# Altium footprint library PCB_LIB.PcbLib: 60 footprints (part 3 of 4)
Each footprint in its own frame and in the unit in brackets; x right, y up, seen from the top. Pads: shape width x height; smd on the part's side, far side on the other; paste and mask are expansions set on the pad; w line width, h text height; cw(c..) or ccw(c..) is an arc to the next point about the centre after c.
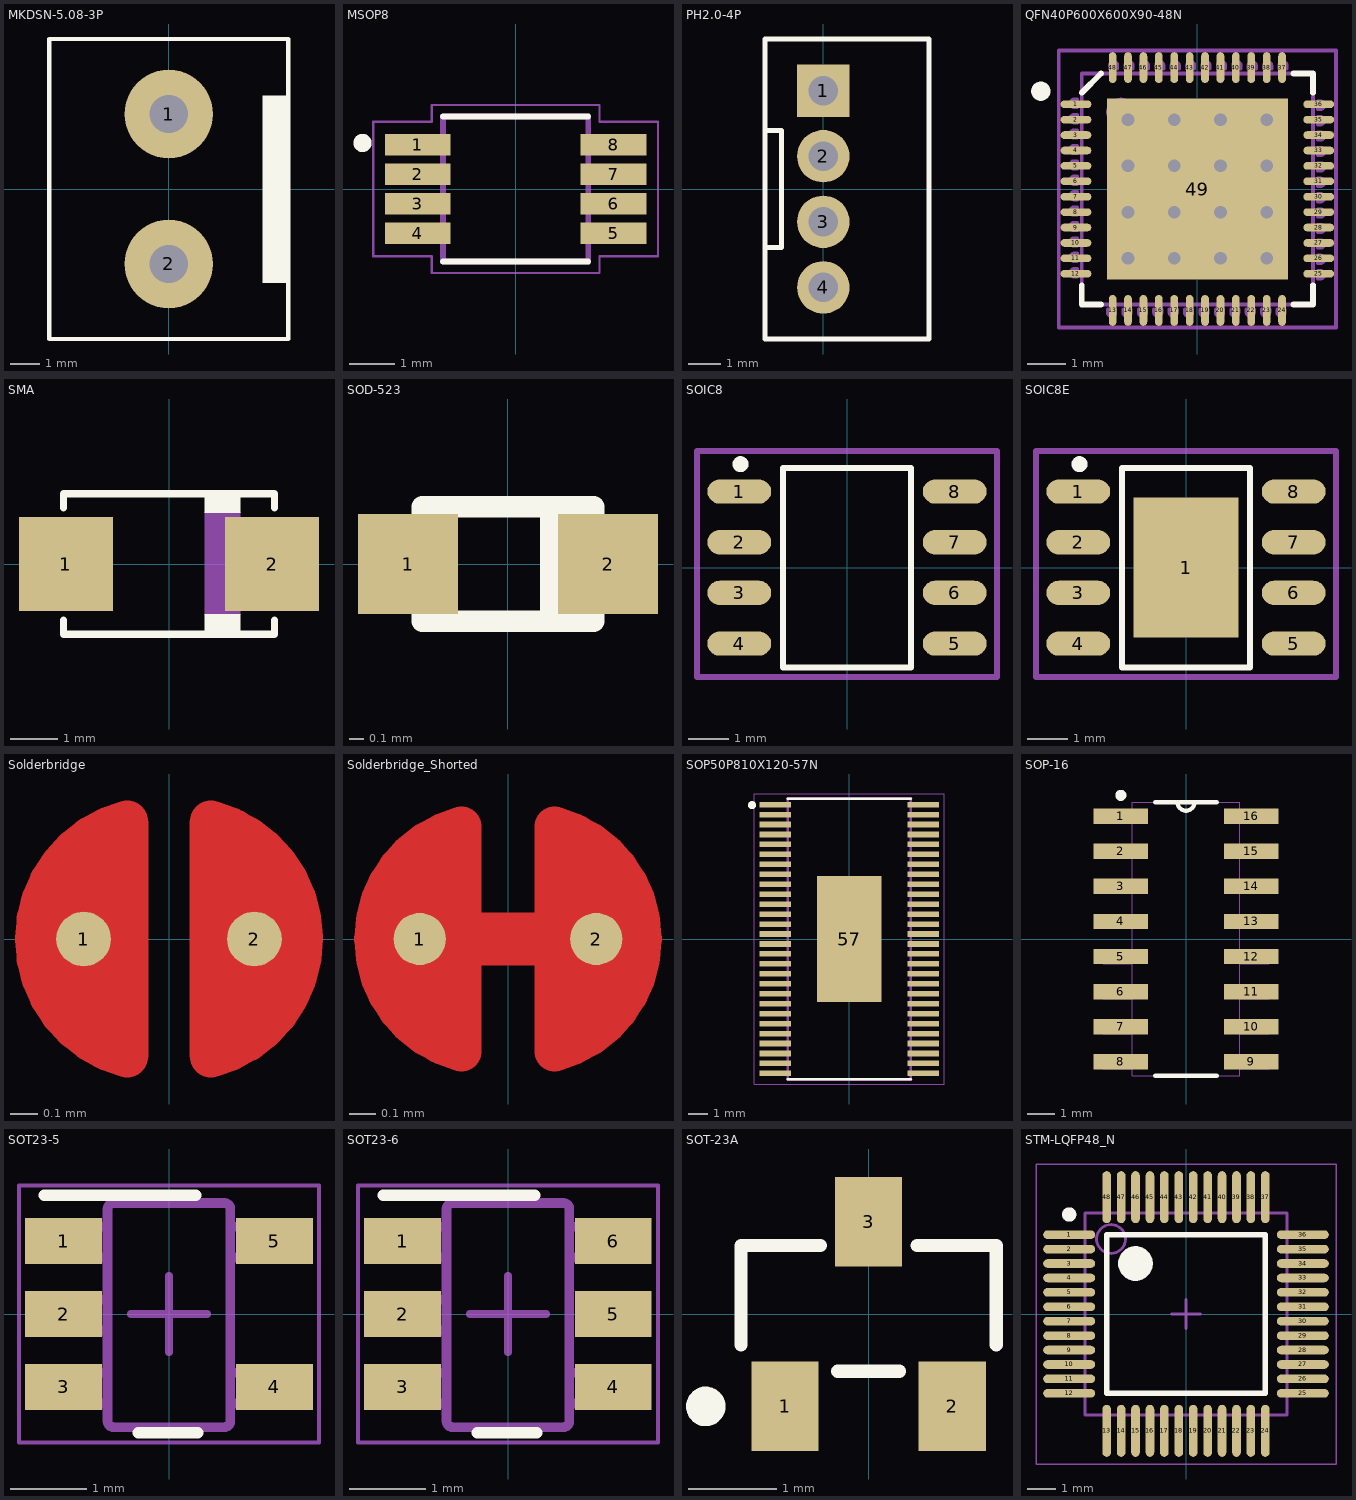
[diagram p2: the footprints below, top view; thin cyan lines are the x and y axes]

## MKDSN-5.08-3P [mm]
pads (2):
  round 3 hole 1.3: 1(0,2.54) 2(0,-2.54)
Top Overlay:
  rectangle: 3.175,-3.175 4.064,3.175
  lines w0.15: -4.05,-5.08 4.05,-5.08 4.05,5.08 -4.05,5.08 -4.05,-5.08
3D body "pxc_1729128_07_MKDSN-1-5-2-5-08_3D.stp": height 10, standoff -3.5, extent -4.054,-5.659 4.046,5.071

## MSOP8 [mm]
pads (8):
  rect 1.45x0.48 smd: 1(-2.16,0.975) 2(-2.16,0.325) 3(-2.16,-0.325) 4(-2.16,-0.975) 5(2.16,-0.975) 6(2.16,-0.325) 7(2.16,0.325) 8(2.16,0.975)
Top Overlay:
  circle w0.2: c-3.375,1.016 r0.1
  lines w0.127: -1.6,-1.6 1.6,-1.6 ; -1.6,1.6 1.6,1.6
Mechanical 1:
  lines w0.127: -1.6,-1.6 1.6,-1.6 1.6,1.6 -1.6,1.6 -1.6,-1.6
Mechanical 4:
  lines w0.05: -3.14,-1.48 -1.85,-1.48 -1.85,-1.85 1.85,-1.85 1.85,-1.48 3.14,-1.48 3.14,1.48 1.85,1.48 1.85,1.85 -1.85,1.85 -1.85,1.48 -3.14,1.48 -3.14,-1.48

## PH2.0-4P [mm]
pads (4):
  rect 1.6x1.6 hole 0.9: 1(0,3)
  round 1.6 hole 0.9: 2(0,1) 3(0,-1) 4(0,-3)
Top Overlay:
  lines w0.15: -1.778,-1.778 -1.27,-1.778 -1.27,1.778 -1.778,1.778 ; -1.778,-4.572 3.222,-4.572 3.222,4.572 -1.778,4.572 -1.778,-4.572

## QFN40P600X600X90-48N [mm]
pads (49):
  oval 0.8x0.2 smd: 1(-3.152,2.2) 2(-3.152,1.8) 3(-3.152,1.4) 4(-3.152,1) 5(-3.152,0.6) 6(-3.152,0.2) 7(-3.152,-0.2) 8(-3.152,-0.6) 9(-3.152,-1) 10(-3.152,-1.4) 11(-3.152,-1.8) 12(-3.152,-2.2) 25(3.152,-2.2) 26(3.152,-1.8) 27(3.152,-1.4) 28(3.152,-1) 29(3.152,-0.6) 30(3.152,-0.2) 31(3.152,0.2) 32(3.152,0.6) 33(3.152,1) 34(3.152,1.4) 35(3.152,1.8) 36(3.152,2.2)
  oval 0.2x0.8 smd: 13(-2.2,-3.152) 14(-1.8,-3.152) 15(-1.4,-3.152) 16(-1,-3.152) 17(-0.6,-3.152) 18(-0.2,-3.152) 19(0.2,-3.152) 20(0.6,-3.152) 21(1,-3.152) 22(1.4,-3.152) 23(1.8,-3.152) 24(2.2,-3.152) 37(2.2,3.152) 38(1.8,3.152) 39(1.4,3.152) 40(1,3.152) 41(0.6,3.152) 42(0.2,3.152) 43(-0.2,3.152) 44(-0.6,3.152) 45(-1,3.152) 46(-1.4,3.152) 47(-1.8,3.152) 48(-2.2,3.152)
  rect 4.7x4.7 smd: 49(0,0)
via 1.8,-1.8 diameter 0.66 hole 0.33
via 0.6,-1.8 diameter 0.66 hole 0.33
via -0.6,-1.8 diameter 0.66 hole 0.33
via -1.8,-1.8 diameter 0.66 hole 0.33
via 1.8,-0.6 diameter 0.66 hole 0.33
via 0.6,-0.6 diameter 0.66 hole 0.33
via -0.6,-0.6 diameter 0.66 hole 0.33
via -1.8,-0.6 diameter 0.66 hole 0.33
via 1.8,0.6 diameter 0.66 hole 0.33
via 0.6,0.6 diameter 0.66 hole 0.33
via -0.6,0.6 diameter 0.66 hole 0.33
via -1.8,0.6 diameter 0.66 hole 0.33
via 1.8,1.8 diameter 0.66 hole 0.33
via 0.6,1.8 diameter 0.66 hole 0.33
via -0.6,1.8 diameter 0.66 hole 0.33
via -1.8,1.8 diameter 0.66 hole 0.33
Top Overlay:
  circle w0.25: c-4.064,2.54 r0.125
  lines w0.15: -3,-2.5 -3,-3 -2.5,-3 ; -3,2.5 -2.5,3 ; 2.5,-3 3,-3 3,-2.5 ; 2.5,3 3,3 3,2.5
Mechanical 7:
  circle w0.1: c-2,2 r0.32
  lines w0.1: -3.127,-2.269 -3.198,-2.269 cw(c-3.198,-2.174) -3.198,-2.079 -3.127,-2.079 ; -3.127,-1.869 -3.198,-1.869 cw(c-3.198,-1.774) -3.198,-1.679 -3.127,-1.679 ; -3.127,-1.469 -3.198,-1.469 cw(c-3.198,-1.374) -3.198,-1.279 -3.127,-1.279 ; -3.127,-1.069 -3.198,-1.069 cw(c-3.198,-0.974) -3.198,-0.879 -3.127,-0.879 ; -3.127,-0.669 -3.198,-0.669 cw(c-3.198,-0.574) -3.198,-0.479 -3.127,-0.479 ; -3.127,-0.269 -3.198,-0.269 cw(c-3.198,-0.174) -3.198,-0.079 -3.127,-0.079 ; -3.127,0.131 -3.198,0.131 cw(c-3.198,0.226) -3.198,0.321 -3.127,0.321 ; -3.127,0.531 -3.198,0.531 cw(c-3.198,0.626) -3.198,0.721 -3.127,0.721 ; -3.127,0.931 -3.198,0.931 cw(c-3.198,1.026) -3.198,1.121 -3.127,1.121 ; -3.127,1.331 -3.198,1.331 cw(c-3.198,1.426) -3.198,1.521 -3.127,1.521 ; -3.127,1.731 -3.198,1.731 cw(c-3.198,1.826) -3.198,1.921 -3.127,1.921 ; -3.127,2.131 -3.198,2.131 cw(c-3.198,2.226) -3.198,2.321 -3.127,2.321 ; -2.321,-3.127 -2.321,-3.198 ccw(c-2.226,-3.198) -2.131,-3.198 -2.131,-3.127 ; -2.269,3.127 -2.269,3.198 cw(c-2.174,3.198) -2.079,3.198 -2.079,3.127 ; -1.921,-3.127 -1.921,-3.198 ccw(c-1.826,-3.198) -1.731,-3.198 -1.731,-3.127 ; -1.869,3.127 -1.869,3.198 cw(c-1.774,3.198) -1.679,3.198 -1.679,3.127 ; -1.521,-3.127 -1.521,-3.198 ccw(c-1.426,-3.198) -1.331,-3.198 -1.331,-3.127 ; -1.469,3.127 -1.469,3.198 cw(c-1.374,3.198) -1.279,3.198 -1.279,3.127 ; -1.121,-3.127 -1.121,-3.198 ccw(c-1.026,-3.198) -0.931,-3.198 -0.931,-3.127 ; -1.069,3.127 -1.069,3.198 cw(c-0.974,3.198) -0.879,3.198 -0.879,3.127 ; -0.721,-3.127 -0.721,-3.198 ccw(c-0.626,-3.198) -0.531,-3.198 -0.531,-3.127 ; -0.669,3.127 -0.669,3.198 cw(c-0.574,3.198) -0.479,3.198 -0.479,3.127 ; -0.321,-3.127 -0.321,-3.198 ccw(c-0.226,-3.198) -0.131,-3.198 -0.131,-3.127 ; -0.269,3.127 -0.269,3.198 cw(c-0.174,3.198) -0.079,3.198 -0.079,3.127 ; 0.079,-3.127 0.079,-3.198 ccw(c0.174,-3.198) 0.269,-3.198 0.269,-3.127 ; 0.131,3.127 0.131,3.198 cw(c0.226,3.198) 0.321,3.198 0.321,3.127 ; 0.479,-3.127 0.479,-3.198 ccw(c0.574,-3.198) 0.669,-3.198 0.669,-3.127 ; 0.531,3.127 0.531,3.198 cw(c0.626,3.198) 0.721,3.198 0.721,3.127 ; 0.879,-3.127 0.879,-3.198 ccw(c0.974,-3.198) 1.069,-3.198 1.069,-3.127 ; 0.931,3.127 0.931,3.198 cw(c1.026,3.198) 1.121,3.198 1.121,3.127 ; 1.279,-3.127 1.279,-3.198 ccw(c1.374,-3.198) 1.469,-3.198 1.469,-3.127 ; 1.331,3.127 1.331,3.198 cw(c1.426,3.198) 1.521,3.198 1.521,3.127 ; 1.679,-3.127 1.679,-3.198 ccw(c1.774,-3.198) 1.869,-3.198 1.869,-3.127 ; 1.731,3.127 1.731,3.198 cw(c1.826,3.198) 1.921,3.198 1.921,3.127 ; 2.079,-3.127 2.079,-3.198 ccw(c2.174,-3.198) 2.269,-3.198 2.269,-3.127 ; 2.131,3.127 2.131,3.198 cw(c2.226,3.198) 2.321,3.198 2.321,3.127 ; 3.127,-2.321 3.198,-2.321 ccw(c3.198,-2.226) 3.198,-2.131 3.127,-2.131 ; 3.127,-1.921 3.198,-1.921 ccw(c3.198,-1.826) 3.198,-1.731 3.127,-1.731 ; 3.127,-1.521 3.198,-1.521 ccw(c3.198,-1.426) 3.198,-1.331 3.127,-1.331 ; 3.127,-1.121 3.198,-1.121 ccw(c3.198,-1.026) 3.198,-0.931 3.127,-0.931 ; 3.127,-0.721 3.198,-0.721 ccw(c3.198,-0.626) 3.198,-0.531 3.127,-0.531 ; 3.127,-0.321 3.198,-0.321 ccw(c3.198,-0.226) 3.198,-0.131 3.127,-0.131 ; 3.127,0.079 3.198,0.079 ccw(c3.198,0.174) 3.198,0.269 3.127,0.269 ; 3.127,0.479 3.198,0.479 ccw(c3.198,0.574) 3.198,0.669 3.127,0.669 ; 3.127,0.879 3.198,0.879 ccw(c3.198,0.974) 3.198,1.069 3.127,1.069 ; 3.127,1.279 3.198,1.279 ccw(c3.198,1.374) 3.198,1.469 3.127,1.469 ; 3.127,1.679 3.198,1.679 ccw(c3.198,1.774) 3.198,1.869 3.127,1.869 ; 3.127,2.079 3.198,2.079 ccw(c3.198,2.174) 3.198,2.269 3.127,2.269 ; -3,-3 3,-3 3,3 -3,3 -3,-3
Mechanical 15:
  lines w0.1: -0.5,0 0.5,0 ; 0,-0.5 0,0.5 ; -3.6,-3.6 3.6,-3.6 3.6,3.6 -3.6,3.6 -3.6,-3.6
3D body "User Library-QFN48.step": height 0.86, standoff -0.01, extent -3.02,-3.02 3.02,3.02

## SMA [mm]
pads (2):
  rect 2x2 smd: 1(-2.2,0) 2(2.2,0)
Top Overlay:
  region: 0.762,1.446 1.524,1.446 1.524,1.094 0.762,1.094
  region: 0.762,-1.071 1.524,-1.071 1.524,-1.422 0.762,-1.422
  lines w0.15: -2.25,-1.194 -2.25,-1.499 2.25,-1.499 2.25,-1.194 ; -2.25,1.194 -2.25,1.499 2.25,1.499 2.25,1.194
Mechanical 1:
  region: 0.762,1.092 1.524,1.092 1.524,-1.067 0.762,-1.067
3D body "SMA.STEP": height 2.15, standoff -0.05, extent -2.5,-1.35 2.5,1.35

## SOD-523 [mm]
pads (2):
  rect 0.7x0.7 smd: 1(-0.7,0) 2(0.7,0)
Top Overlay:
  lines w0.15: 0.3,-0.4 0.3,0.4 ; 0.4,-0.4 0.4,0.4 ; 0.5,-0.4 0.5,0.4 ; -0.6,-0.4 -0.6,0.4 0.6,0.4 0.6,-0.4 -0.6,-0.4
3D body "User Library-SOD-523F.step": height 0.7, standoff 0, extent -0.8,-0.399 0.8,0.399

## SOIC8 [mm]
pads (8):
  oval 1.6x0.61 smd: 1(-2.7,1.905) 2(-2.7,0.635) 3(-2.7,-0.635) 4(-2.7,-1.905) 5(2.7,-1.905) 6(2.7,-0.635) 7(2.7,0.635) 8(2.7,1.905)
Top Overlay:
  circle w0.2: c-2.667,2.591 r0.1
  lines w0.15: -1.6,-2.5 1.6,-2.5 1.6,2.5 -1.6,2.5 -1.6,-2.5
Mechanical 15:
  lines w0.15: -3.759,-2.743 3.759,-2.743 3.759,2.921 -3.759,2.921 -3.759,-2.743
3D body "SOIC8E.STEP": height 1.7, standoff 0, extent -3,-2.45 3,2.45

## SOIC8E [mm]
pads (9):
  oval 1.6x0.61 smd: 1(-2.7,1.905) 2(-2.7,0.635) 3(-2.7,-0.635) 4(-2.7,-1.905) 5(2.7,-1.905) 6(2.7,-0.635) 7(2.7,0.635) 8(2.7,1.905)
  rect 2.62x3.51 smd: 1(0,0)
Top Overlay:
  circle w0.2: c-2.667,2.591 r0.1
  lines w0.15: -1.6,-2.5 -1.6,2.5 1.6,2.5 1.6,-2.5 -1.6,-2.5
Mechanical 15:
  lines w0.15: -3.759,-2.743 -3.759,2.921 3.759,2.921 3.759,-2.743 -3.759,-2.743
3D body "SOIC8E.STEP": height 1.7, standoff 0, extent -3,-2.45 3,2.45

## Solderbridge [mm]
pads (2):
  round 0.2 smd paste-10: 1(-0.312,0) 2(0.312,0)
Top Layer:
  region: -0.077,-0.432 -0.152,-0.505 -0.271,-0.467 -0.335,-0.424 -0.409,-0.351 -0.462,-0.292 -0.521,-0.193 -0.549,-0.099 -0.544,0.122 -0.518,0.193 -0.434,0.33 -0.351,0.411 -0.259,0.469 -0.157,0.5 -0.107,0.483 -0.077,0.43
  region: 0.077,0.432 0.152,0.505 0.271,0.467 0.335,0.424 0.409,0.351 0.462,0.292 0.521,0.193 0.549,0.099 0.544,-0.122 0.518,-0.193 0.434,-0.33 0.351,-0.411 0.259,-0.469 0.157,-0.5 0.107,-0.483 0.077,-0.43
  lines w0.152: -0.153,-0.431 cw(c-0.042,0) -0.487,0 cw(c-0.042,0) -0.287,0.371 cw(c-0.042,0) -0.153,0.431 ; 0.153,-0.431 ccw(c0.042,0) 0.461,0.149 ccw(c0.042,0) 0.153,0.431
Top Solder:
  circle w0.61: c-0.003,0 r0.279

## Solderbridge_Shorted [mm]
pads (2):
  round 0.2 smd paste-10: 1(-0.338,0) 2(0.338,0)
Top Layer:
  region: -0.102,-0.432 -0.178,-0.505 -0.296,-0.467 -0.361,-0.424 -0.434,-0.351 -0.488,-0.292 -0.546,-0.193 -0.574,-0.099 -0.569,0.122 -0.544,0.193 -0.46,0.33 -0.376,0.411 -0.284,0.469 -0.183,0.5 -0.132,0.483 -0.102,0.43
  region: 0.102,0.432 0.178,0.505 0.296,0.467 0.361,0.424 0.434,0.351 0.488,0.292 0.546,0.193 0.574,0.099 0.569,-0.122 0.544,-0.193 0.46,-0.33 0.376,-0.411 0.284,-0.469 0.183,-0.5 0.132,-0.483 0.102,-0.43
  lines w0.152: -0.178,-0.431 cw(c-0.068,0) -0.178,0.431 ; 0.178,-0.431 ccw(c0.068,0) 0.178,0.431
  lines w0.203: -0.338,0 0.338,0
Top Solder:
  circle w0.61: c0.028,0 r0.279
  circle w0.61: c-0.028,0 r0.279

## SOP50P810X120-57N [mm]
pads (57):
  rect 1.57x0.28 smd: 1(-3.72,6.75) 2(-3.72,6.25) 3(-3.72,5.75) 4(-3.72,5.25) 5(-3.72,4.75) 6(-3.72,4.25) 7(-3.72,3.75) 8(-3.72,3.25) 9(-3.72,2.75) 10(-3.72,2.25) 11(-3.72,1.75) 12(-3.72,1.25) 13(-3.72,0.75) 14(-3.72,0.25) 15(-3.72,-0.25) 16(-3.72,-0.75) 17(-3.72,-1.25) 18(-3.72,-1.75) 19(-3.72,-2.25) 20(-3.72,-2.75) 21(-3.72,-3.25) 22(-3.72,-3.75) 23(-3.72,-4.25) 24(-3.72,-4.75) 25(-3.72,-5.25) 26(-3.72,-5.75) 27(-3.72,-6.25) 28(-3.72,-6.75) 29(3.72,-6.75) 30(3.72,-6.25) 31(3.72,-5.75) 32(3.72,-5.25) 33(3.72,-4.75) 34(3.72,-4.25) 35(3.72,-3.75) 36(3.72,-3.25) 37(3.72,-2.75) 38(3.72,-2.25) 39(3.72,-1.75) 40(3.72,-1.25) 41(3.72,-0.75) 42(3.72,-0.25) 43(3.72,0.25) 44(3.72,0.75) 45(3.72,1.25) 46(3.72,1.75) 47(3.72,2.25) 48(3.72,2.75) 49(3.72,3.25) 50(3.72,3.75) 51(3.72,4.25) 52(3.72,4.75) 53(3.72,5.25) 54(3.72,5.75) 55(3.72,6.25) 56(3.72,6.75)
  rect 3.235x6.35 smd: 57(0,0)
Top Overlay:
  circle w0.2: c-4.886,6.725 r0.1
  lines w0.127: -3.1,-7.05 3.1,-7.05 ; -3.1,7.05 3.1,7.05
Top Paste:
  region: -1.026,2 1.023,2 1.023,-2.006 -1.026,-2.006
Mechanical 1:
  lines w0.127: -3.1,-7.05 -3.1,7.05 ; 3.1,-7.05 3.1,7.05
  lines w0.15: -3.1,-7.05 3.1,-7.05 ; -3.1,7.05 3.1,7.05
Mechanical 4:
  lines w0.05: -4.76,-7.3 4.76,-7.3 4.76,7.3 -4.76,7.3 -4.76,-7.3

## SOP-16 [mil]
pads (16):
  rect 78x22 smd: 1(-93,175) 2(-93,125) 3(-93,75) 4(-93,25) 5(-93,-25) 6(-93,-75) 7(-93,-125) 8(-93,-175) 9(93,-175) 10(93,-125) 11(93,-75) 12(93,-25) 13(93,25) 14(93,75) 15(93,125) 16(93,175)
Top Overlay:
  circle w7.87: c-93,205 r3.94
  lines w6: -44,-195 44,-195 ; -44,195 -12,195 ; 44,195 12,195 ; -12,195 ccw(c0,195) 12,195 ; -12,195 12,195
Mechanical 4:
  lines w0: -118,-185 -77,-185 ; -118,-185 -118,-165 ; -118,-185 -77,-185 ; -118,-185 -118,-165 ; -118,-165 -77,-165 ; -118,-165 -77,-165 ; -118,-135 -77,-135 ; -118,-135 -118,-115 ; -118,-135 -77,-135 ; -118,-135 -118,-115 ; -118,-115 -77,-115 ; -118,-115 -77,-115 ; -118,-85 -77,-85 ; -118,-85 -118,-65 ; -118,-85 -77,-85 ; -118,-85 -118,-65 ; -118,-65 -77,-65 ; -118,-65 -77,-65 ; -118,-35 -77,-35 ; -118,-35 -118,-15 ; -118,-35 -77,-35 ; -118,-35 -118,-15 ; -118,-15 -77,-15 ; -118,-15 -77,-15 ; -118,15 -77,15 ; -118,15 -118,35 ; -118,15 -77,15 ; -118,15 -118,35 ; -118,35 -77,35 ; -118,35 -77,35 ; -118,65 -77,65 ; -118,65 -118,85 ; -118,65 -77,65 ; -118,65 -118,85 ; -118,85 -77,85 ; -118,85 -77,85 ; -118,115 -77,115 ; -118,115 -118,135 ; -118,115 -77,115 ; -118,115 -118,135 ; -118,135 -77,135 ; -118,135 -77,135 ; -118,165 -77,165 ; -118,165 -118,185 ; -118,165 -77,165 ; -118,165 -118,185 ; -118,185 -77,185 ; -118,185 -77,185 ; -77,-195 -77,195 ; -77,-195 77,-195 ; -77,-195 -77,195 ; -77,-195 77,-195 ; -77,-185 -77,-165 ; -77,-185 -77,-165 ; -77,-135 -77,-115 ; -77,-135 -77,-115 ; -77,-85 -77,-65 ; -77,-85 -77,-65 ; -77,-35 -77,-15 ; -77,-35 -77,-15 ; -77,15 -77,35 ; -77,15 -77,35 ; -77,65 -77,85 ; -77,65 -77,85 ; -77,115 -77,135 ; -77,115 -77,135 ; -77,165 -77,185 ; -77,165 -77,185 ; -77,195 -12,195 ; -77,195 -12,195 ; -12,195 ccw(c0,195) 12,195 ; -12,195 ccw(c0,195) 12,195 ; -12,195 12,195 ; -12,195 12,195 ; 12,195 77,195 ; 12,195 77,195 ; 77,-195 77,195 ; 77,-195 77,195 ; 77,-185 118,-185 ; 77,-185 77,-165 ; 77,-185 118,-185 ; 77,-185 77,-165 ; 77,-165 118,-165 ; 77,-165 118,-165 ; 77,-135 118,-135 ; 77,-135 77,-115 ; 77,-135 118,-135 ; 77,-135 77,-115 ; 77,-115 118,-115 ; 77,-115 118,-115 ; 77,-85 118,-85 ; 77,-85 77,-65 ; 77,-85 118,-85 ; 77,-85 77,-65 ; 77,-65 118,-65 ; 77,-65 118,-65 ; 77,-35 118,-35 ; 77,-35 77,-15 ; 77,-35 118,-35 ; 77,-35 77,-15 ; 77,-15 118,-15 ; 77,-15 118,-15 ; 77,15 118,15 ; 77,15 77,35 ; 77,15 118,15 ; 77,15 77,35 ; 77,35 118,35 ; 77,35 118,35 ; 77,65 118,65 ; 77,65 77,85 ; 77,65 118,65 ; 77,65 77,85 ; 77,85 118,85 ; 77,85 118,85 ; 77,115 118,115 ; 77,115 77,135 ; 77,115 118,115 ; 77,115 77,135 ; 77,135 118,135 ; 77,135 118,135 ; 77,165 118,165 ; 77,165 77,185 ; 77,165 118,165 ; 77,165 77,185 ; 77,185 118,185 ; 77,185 118,185 ; 118,-185 118,-165 ; 118,-185 118,-165 ; 118,-135 118,-115 ; 118,-135 118,-115 ; 118,-85 118,-65 ; 118,-85 118,-65 ; 118,-35 118,-15 ; 118,-35 118,-15 ; 118,15 118,35 ; 118,15 118,35 ; 118,65 118,85 ; 118,65 118,85 ; 118,115 118,135 ; 118,115 118,135 ; 118,165 118,185 ; 118,165 118,185

## SOT23-5 [mm]
pads (5):
  rect 1x0.6 smd paste+0 mask+0.051: 1(-1.375,0.95) 2(-1.375,0) 3(-1.375,-0.95) 4(1.375,-0.95) 5(1.375,0.95)
Top Overlay:
  lines w0.15: -1.625,1.55 0.35,1.55 ; -0.4,-1.55 0.375,-1.55
Mechanical 13:
  lines w0.127: -0.801,1.371 cw(c-0.725,1.37) -0.725,1.446 ; -0.801,1.37 -0.801,-1.399 -0.801,-1.4 ccw(c-0.725,-1.399) -0.725,-1.475 ; -0.801,1.37 -0.801,1.371 ; -0.725,-1.475 -0.725,-1.475 ; -0.725,-1.475 0.723,-1.475 0.724,-1.475 ccw(c0.723,-1.399) 0.799,-1.4 0.799,-1.399 0.799,1.37 ; -0.725,1.446 0.723,1.446 0.724,1.446 cw(c0.723,1.37) 0.799,1.371 ; -0.725,1.446 -0.725,1.446 ; 0.799,1.37 0.799,1.371 ; -1.423,-1.167 -1.199,-1.167 -1.105,-1.167 -1.088,-1.167 -0.835,-1.167 -0.801,-1.167 -0.801,-0.767 -0.835,-0.767 -1.088,-0.767 -1.105,-0.767 -1.199,-0.767 -1.423,-0.767 -1.423,-1.167 ; -1.423,-0.215 -1.199,-0.215 -1.105,-0.215 -1.088,-0.215 -0.835,-0.215 -0.801,-0.215 -0.801,0.186 -0.835,0.186 -1.088,0.186 -1.105,0.186 -1.199,0.186 -1.423,0.186 -1.423,-0.215 ; -1.423,0.738 -1.199,0.738 -1.105,0.738 -1.088,0.738 -0.835,0.738 -0.801,0.738 -0.801,1.138 -0.835,1.138 -1.088,1.138 -1.105,1.138 -1.199,1.138 -1.423,1.138 -1.423,0.738 ; 0.799,-1.167 0.799,-0.767 0.834,-0.767 1.087,-0.767 1.103,-0.767 1.198,-0.767 1.422,-0.767 1.422,-1.167 1.198,-1.167 1.103,-1.167 1.087,-1.167 0.834,-1.167 0.799,-1.167 ; 0.799,0.738 0.799,1.138 0.834,1.138 1.087,1.138 1.103,1.138 1.198,1.138 1.422,1.138 1.422,0.738 1.198,0.738 1.103,0.738 1.087,0.738 0.834,0.738 0.799,0.738
Mechanical 15:
  lines w0.05: -1.956,-1.676 1.956,-1.676 1.956,1.676 -1.956,1.676 -1.956,-1.676
  lines w0.1: -0.5,0 0.5,0 ; 0,-0.5 0,0.5
3D body "SW3DPS-SOT-23-5-DEFAULT.STEP": height 1.05, standoff -0.05, extent -1.23,-1.5 1.27,1.5

## SOT23-6 [mm]
pads (6):
  rect 1x0.6 smd paste+0 mask+0.051: 1(-1.375,0.95) 2(-1.375,0) 3(-1.375,-0.95) 4(1.372,-0.95) 5(1.372,0) 6(1.372,0.95)
Top Overlay:
  lines w0.15: -1.625,1.55 0.35,1.55 ; -0.4,-1.55 0.375,-1.55
Mechanical 13:
  lines w0.127: -0.801,1.371 cw(c-0.725,1.37) -0.725,1.446 ; -0.801,1.37 -0.801,-1.399 -0.801,-1.4 ccw(c-0.725,-1.399) -0.725,-1.475 ; -0.801,1.37 -0.801,1.371 ; -0.725,-1.475 -0.725,-1.475 ; -0.725,-1.475 0.723,-1.475 0.724,-1.475 ccw(c0.723,-1.399) 0.799,-1.4 0.799,-1.399 0.799,1.37 ; -0.725,1.446 0.723,1.446 0.724,1.446 cw(c0.723,1.37) 0.799,1.371 ; -0.725,1.446 -0.725,1.446 ; 0.799,1.37 0.799,1.371 ; -1.423,-1.167 -1.199,-1.167 -1.105,-1.167 -1.088,-1.167 -0.835,-1.167 -0.801,-1.167 -0.801,-0.767 -0.835,-0.767 -1.088,-0.767 -1.105,-0.767 -1.199,-0.767 -1.423,-0.767 -1.423,-1.167 ; -1.423,-0.215 -1.199,-0.215 -1.105,-0.215 -1.088,-0.215 -0.835,-0.215 -0.801,-0.215 -0.801,0.186 -0.835,0.186 -1.088,0.186 -1.105,0.186 -1.199,0.186 -1.423,0.186 -1.423,-0.215 ; -1.423,0.738 -1.199,0.738 -1.105,0.738 -1.088,0.738 -0.835,0.738 -0.801,0.738 -0.801,1.138 -0.835,1.138 -1.088,1.138 -1.105,1.138 -1.199,1.138 -1.423,1.138 -1.423,0.738 ; 0.799,-1.167 0.799,-0.767 0.834,-0.767 1.087,-0.767 1.103,-0.767 1.198,-0.767 1.422,-0.767 1.422,-1.167 1.198,-1.167 1.103,-1.167 1.087,-1.167 0.834,-1.167 0.799,-1.167 ; 0.799,0.738 0.799,1.138 0.834,1.138 1.087,1.138 1.103,1.138 1.198,1.138 1.422,1.138 1.422,0.738 1.198,0.738 1.103,0.738 1.087,0.738 0.834,0.738 0.799,0.738
Mechanical 15:
  lines w0.05: -1.956,-1.676 1.956,-1.676 1.956,1.676 -1.956,1.676 -1.956,-1.676
  lines w0.1: -0.5,0 0.5,0 ; 0,-0.5 0,0.5
3D body "User Library-SOT-23-6-THIN.STEP": height 1.1, standoff 0, extent -1.5,-1.551 1.5,1.449

## SOT-23A [mil]
pads (3):
  rect 30x40 smd: 1(-37.4,-41.34) 2(37.4,-41.34) 3(0,41.34)
Top Overlay:
  circle w9.84: c-72.83,-41.34 r3.94
  lines w5.91: -57.09,-13.78 -57.09,30.66 -21.65,30.66 ; -13.78,-25.59 13.78,-25.59 ; 21.65,30.66 57.09,30.66 57.09,-13.78
3D body "User Library-sot23-1.step": height 39.37, standoff 0, extent -57.47,-41.06 57.49,51.07

## STM-LQFP48_N [mm] "QFP, 48-Leads, Body 7x7mm, Pitch 0.5mm, IPC Medium Density"
height 1.6
pads (48):
  oval 1.8x0.3 smd: 1(-4.05,2.75) 2(-4.05,2.25) 3(-4.05,1.75) 4(-4.05,1.25) 5(-4.05,0.75) 6(-4.05,0.25) 7(-4.05,-0.25) 8(-4.05,-0.75) 9(-4.05,-1.25) 10(-4.05,-1.75) 11(-4.05,-2.25) 12(-4.05,-2.75) 25(4.05,-2.75) 26(4.05,-2.25) 27(4.05,-1.75) 28(4.05,-1.25) 29(4.05,-0.75) 30(4.05,-0.25) 31(4.05,0.25) 32(4.05,0.75) 33(4.05,1.25) 34(4.05,1.75) 35(4.05,2.25) 36(4.05,2.75)
  oval 0.3x1.8 smd: 13(-2.75,-4.05) 14(-2.25,-4.05) 15(-1.75,-4.05) 16(-1.25,-4.05) 17(-0.75,-4.05) 18(-0.25,-4.05) 19(0.25,-4.05) 20(0.75,-4.05) 21(1.25,-4.05) 22(1.75,-4.05) 23(2.25,-4.05) 24(2.75,-4.05) 37(2.75,4.05) 38(2.25,4.05) 39(1.75,4.05) 40(1.25,4.05) 41(0.75,4.05) 42(0.25,4.05) 43(-0.25,4.05) 44(-0.75,4.05) 45(-1.25,4.05) 46(-1.75,4.05) 47(-2.25,4.05) 48(-2.75,4.05)
Top Overlay:
  circle w0.6: c-1.75,1.75 r0.3
  circle w0.25: c-4.05,3.45 r0.125
  lines w0.2: -2.75,-2.75 2.75,-2.75 2.75,2.75 -2.75,2.75 -2.75,-2.75
Mechanical 13:
  circle w0.1: c-2.6,2.6 r0.5
  lines w0.1: -3.5,-3.5 3.5,-3.5 3.5,3.5 -3.5,3.5 -3.5,-3.5
Mechanical 15:
  lines w0.05: -5.2,-5.2 5.2,-5.2 5.2,5.2 -5.2,5.2 -5.2,-5.2
  lines w0.1: -0.5,0 0.5,0 ; 0,-0.5 0,0.5
3D body "User Library-LQFP48_Grid_0_5.STEP": height 1.6, standoff 0, extent -4.5,-4.5 4.5,4.5